# Altium integrated library Silicon Labs Automotive & Industrial MCUs.IntLib: 240 symbols (part 4 of 8)
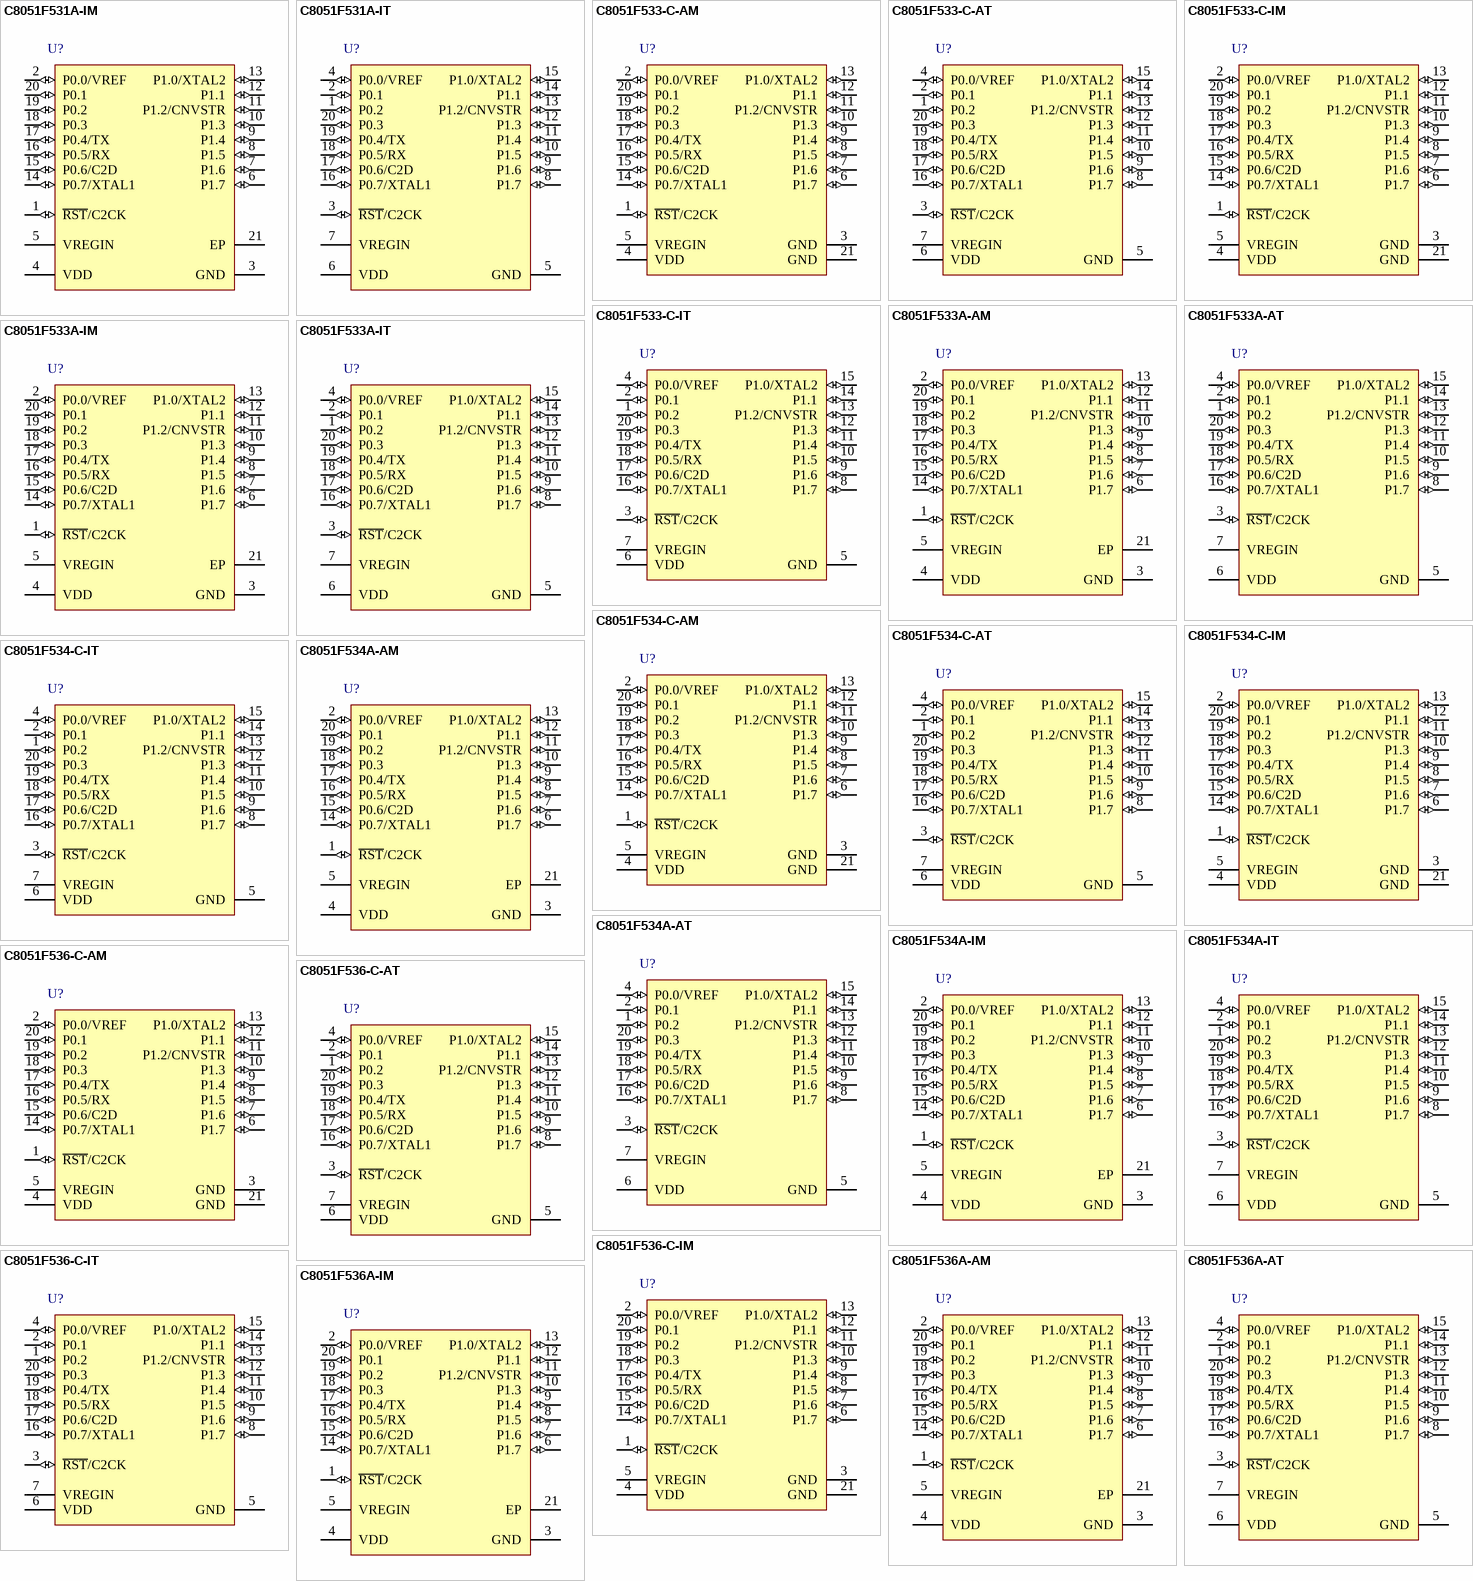
[diagram p16: symbols C8051F531A-IM to C8051F536A-IM]

## C8051F536-C-AT
designator U?
ISP Flash MCU Family, 25 MHz, 0.25 kB RAM, 2 kB Flash, -40 to 125 degC, 20-pin SOP; Manufacturer: Silicon Labs; PartNumber: C8051F536-C-AT; Note: 0; ADC 1: 12-bit, 16-ch., 200 ksps; AEC-Q100: TRUE; Comparators: 1; Debug Interface: C2; Dig I/O Pins: 16; Flash: 2 kB; Internal Osc. Accuracy: +/-0.5%; MCU Core: 8051; MHz: 25; PCA Channels: 3; RAM: 0.25 kB; Sub-Family: Automotive & Industrial MCUs; DatasheetVersion: Rev. 1.4; PackageReference: TSSOP-20; PackageDescription: 20-Pin Thin Shrink Small-Outline Package, Body 6.5 x 4.4 mm, Pitch 0.65 mm; Temp Sensor: TRUE; Timers (16-bit): 3; Mounting Technology: Surface Mount; Code_JEDEC: MO-153; Code_IPC: J-STD-020; ComponentLink1Description: Manufacturer URL; ComponentLink1URL: http://www.silabs.com; ComponentLink2Description: Datasheet; ComponentLink2URL: http://www.silabs.com/Support Documents/TechnicalDocs/C8051F52x-F53x.pdf; ComponentLink3Description: Package Specification; ComponentLink3URL: http://www.silabs.com/Support Documents/TechnicalDocs/C8051F52x-F53x.pdf
footprint SLAB-TSSOP-20_N (SOP, 20-Leads, Body 6.6x4.5mm, Pitch 0.65mm, , IPC Medium Density)
footprint SLAB-TSSOP-20_L (SOP, 20-Leads, Body 6.6x4.5mm, Pitch 0.65mm, IPC High Density)
footprint SLAB-TSSOP-20_M (SOP, 20-Leads, Body 6.6x4.5mm, Pitch 0.65mm, IPC Low Density)
pins: 1 P0.2 (io) "Port 0.2. See Port I/O Section for a complete description.", 2 P0.1 (io) "Port 0.1. See Port I/O Section for a complete description.", 3 ~{RST}/C2CK (io), 4 P0.0/VREF (io), 5 GND (power) "Ground.", 6 VDD (power) "Core Supply Voltage.", 7 VREGIN (power) "On-Chip Voltage Regulator Input.", 8 P1.7 (io) "Port 1.7. See Port I/O Section for a complete description.", 9 P1.6 (io) "Port 1.6. See Port I/O Section for a complete description.", 10 P1.5 (io) "Port 1.5. See Port I/O Section for a complete description.", 11 P1.4 (io) "Port 1.4. See Port I/O Section for a complete description.", 12 P1.3 (io) "Port 1.3. See Port I/O Section for a complete description.", 13 P1.2/CNVSTR (io), 14 P1.1 (io) "Port 1.1. See Port I/O Section for a complete description.", 15 P1.0/XTAL2 (io), 16 P0.7/XTAL1 (io), 17 P0.6/C2D (io), 18 P0.5/RX (io), 19 P0.4/TX (io), 20 P0.3 (io) "Port 0.3. See Port I/O Section for a complete description."

## C8051F536-C-IM
designator U?
ISP Flash MCU Family, 25 MHz, 0.25 kB RAM, 2 kB Flash, -40 to 125 degC, 20-pin QFN; Manufacturer: Silicon Labs; PartNumber: C8051F536-C-IM; ADC 1: 12-bit, 16-ch., 200 ksps; AEC-Q100: FALSE; Comparators: 1; Debug Interface: C2; Dig I/O Pins: 16; Flash: 2 kB; Internal Osc. Accuracy: +/-0.5%; MCU Core: 8051; MHz: 25; PCA Channels: 3; RAM: 0.25 kB; Temp Sensor: TRUE; Sub-Family: Automotive & Industrial MCUs; DatasheetVersion: Rev. 1.4; PackageReference: QFN-20; PackageDescription: 20-Pin Quad-Flat No-Leads Package, Body 4 x 4 mm, Pitch 0.5 mm; Supplier 1: Digi-Key; Supplier Part Number 1: C8051F536-C-IM-ND; Supplier 2: Mouser; Supplier Part Number 2: 634-C8051F536-C-IM; Timers (16-bit): 3; Mounting Technology: Surface Mount; Code_JEDEC: MO-220; Code_IPC: J-STD-020; ComponentLink1Description: Manufacturer URL; ComponentLink1URL: http://www.silabs.com; ComponentLink2Description: Datasheet; ComponentLink2URL: http://www.silabs.com/Support Documents/TechnicalDocs/C8051F52x-F53x.pdf; ComponentLink3Description: Package Specification; ComponentLink3URL: http://www.silabs.com/Support%20Documents/TechnicalDocs/C8051F52x-F53x.pdf
footprint SLAB-QFN-20-2700x2700TP_N (QFN, 20-Leads, Body 4x4mm, Pitch 0.5mm, Thermal Pad 2.7x2.7mm, IPC Medium Density)
footprint SLAB-QFN-20-2700x2700TP_L (QFN, 20-Leads, Body 4x4mm, Pitch 0.5mm, Thermal Pad 2.7x2.7mm, IPC High Density)
footprint SLAB-QFN-20-2700x2700TP_M (QFN, 20-Leads, Body 4x4mm, Pitch 0.5mm, Thermal Pad 2.7x2.7mm, IPC Low Density)
pins: 1 ~{RST}/C2CK (io), 2 P0.0/VREF (io), 3 GND (power) "Ground.", 4 VDD (power) "Core Supply Voltage.", 5 VREGIN (power) "On-Chip Voltage Regulator Input.", 6 P1.7 (io) "Port 1.7. See Port I/O Section for a complete description.", 7 P1.6 (io) "Port 1.6. See Port I/O Section for a complete description.", 8 P1.5 (io) "Port 1.5. See Port I/O Section for a complete description.", 9 P1.4 (io) "Port 1.4. See Port I/O Section for a complete description.", 10 P1.3 (io) "Port 1.3. See Port I/O Section for a complete description.", 11 P1.2/CNVSTR (io), 12 P1.1 (io) "Port 1.1. See Port I/O Section for a complete description.", 13 P1.0/XTAL2 (io), 14 P0.7/XTAL1 (io), 15 P0.6/C2D (io), 16 P0.5/RX (io), 17 P0.4/TX (io), 18 P0.3 (io) "Port 0.3. See Port I/O Section for a complete description.", 19 P0.2 (io) "Port 0.2. See Port I/O Section for a complete description.", 20 P0.1 (io) "Port 0.1. See Port I/O Section for a complete description.", 21 GND (power)

## C8051F536-C-IT
designator U?
ISP Flash MCU Family, 25 MHz, 0.25 kB RAM, 2 kB Flash, -40 to 125 degC, 20-pin SOP; Manufacturer: Silicon Labs; PartNumber: C8051F536-C-IT; ADC 1: 12-bit, 16-ch., 200 ksps; AEC-Q100: FALSE; Comparators: 1; Debug Interface: C2; Dig I/O Pins: 16; Flash: 2 kB; Internal Osc. Accuracy: +/-0.5%; MCU Core: 8051; MHz: 25; PCA Channels: 3; RAM: 0.25 kB; Temp Sensor: TRUE; Sub-Family: Automotive & Industrial MCUs; DatasheetVersion: Rev. 1.4; PackageReference: TSSOP-20; PackageDescription: 20-Pin Thin Shrink Small-Outline Package, Body 6.5 x 4.4 mm, Pitch 0.65 mm; Supplier 1: Digi-Key; Supplier Part Number 1: C8051F536-C-IT-ND; Supplier 2: Mouser; Supplier Part Number 2: 634-C8051F536-C-IT; Timers (16-bit): 3; Mounting Technology: Surface Mount; Code_JEDEC: MO-153; Code_IPC: J-STD-020; ComponentLink1Description: Manufacturer URL; ComponentLink1URL: http://www.silabs.com; ComponentLink2Description: Datasheet; ComponentLink2URL: http://www.silabs.com/Support Documents/TechnicalDocs/C8051F52x-F53x.pdf; ComponentLink3Description: Package Specification; ComponentLink3URL: http://www.silabs.com/Support Documents/TechnicalDocs/C8051F52x-F53x.pdf
footprint SLAB-TSSOP-20_N (SOP, 20-Leads, Body 6.6x4.5mm, Pitch 0.65mm, , IPC Medium Density)
footprint SLAB-TSSOP-20_L (SOP, 20-Leads, Body 6.6x4.5mm, Pitch 0.65mm, IPC High Density)
footprint SLAB-TSSOP-20_M (SOP, 20-Leads, Body 6.6x4.5mm, Pitch 0.65mm, IPC Low Density)
pins: 1 P0.2 (io) "Port 0.2. See Port I/O Section for a complete description.", 2 P0.1 (io) "Port 0.1. See Port I/O Section for a complete description.", 3 ~{RST}/C2CK (io), 4 P0.0/VREF (io), 5 GND (power) "Ground.", 6 VDD (power) "Core Supply Voltage.", 7 VREGIN (power) "On-Chip Voltage Regulator Input.", 8 P1.7 (io) "Port 1.7. See Port I/O Section for a complete description.", 9 P1.6 (io) "Port 1.6. See Port I/O Section for a complete description.", 10 P1.5 (io) "Port 1.5. See Port I/O Section for a complete description.", 11 P1.4 (io) "Port 1.4. See Port I/O Section for a complete description.", 12 P1.3 (io) "Port 1.3. See Port I/O Section for a complete description.", 13 P1.2/CNVSTR (io), 14 P1.1 (io) "Port 1.1. See Port I/O Section for a complete description.", 15 P1.0/XTAL2 (io), 16 P0.7/XTAL1 (io), 17 P0.6/C2D (io), 18 P0.5/RX (io), 19 P0.4/TX (io), 20 P0.3 (io) "Port 0.3. See Port I/O Section for a complete description."

## C8051F536A-AM
designator U?
Mixed Signal 2KB Flash ISP MCU, 256B RAM, 16 I/Os, 12-Bit 16 Channel ADC, LIN 2.1, SPI, 20-Pin QFN, Automotive Grade; Manufacturer: Silicon Labs; PartNumber: C8051F536A-AM; DatasheetVersion: rev1.3, Apr-2011; PackageVersion: 2011; PackageReference: QFN-20; PackageDescription: 20-Pin Quad Flat No-Lead, 4 x 4 x 0.9 mm Body, 0.5 mm Pitch; Code_JEDEC: MO-220-VGGD; ComponentLink1Description: Manufacturer URL; ComponentLink1URL: http://www.silabs.com; ComponentLink2Description: Datasheet; ComponentLink2URL: http://www.silabs.com/Support%20Documents/TechnicalDocs/C8051F52x-F53x.pdf
footprint QFN-20_V (QFN, 20-Leads, Body 4x4mm, Pitch 0.5mm, Thermal Pad 2.8x2.8mm, Silicon Labs Recommended)
pins: 1 ~{RST}/C2CK (io), 2 P0.0/VREF (io), 3 GND (power), 4 VDD (power), 5 VREGIN (power), 6 P1.7 (io), 7 P1.6 (io), 8 P1.5 (io), 9 P1.4 (io), 10 P1.3 (io), 11 P1.2/CNVSTR (io), 12 P1.1 (io), 13 P1.0/XTAL2 (io), 14 P0.7/XTAL1 (io), 15 P0.6/C2D (io), 16 P0.5/RX (io), 17 P0.4/TX (io), 18 P0.3 (io), 19 P0.2 (io), 20 P0.1 (io), 21 EP (power)

## C8051F536A-AT
designator U?
Mixed Signal 2KB Flash ISP MCU, 256B RAM, 16 I/Os, 12-Bit 16 Channel ADC, LIN 2.1, SPI, 20-Pin TSSOP, Automotive Grade; Manufacturer: Silicon Labs; PartNumber: C8051F536A-AT; DatasheetVersion: rev1.3, Apr-2011; PackageVersion: 2011; PackageReference: TSSOP-20; PackageDescription: 20-Pin Thin Small Outline Package 6.5 x 4.4 mm Body, 0.65 mm Pitch; Code_JEDEC: MO-153-AC; ComponentLink1Description: Manufacturer URL; ComponentLink1URL: http://www.silabs.com; ComponentLink2Description: Datasheet; ComponentLink2URL: http://www.silabs.com/Support%20Documents/TechnicalDocs/C8051F52x-F53x.pdf
footprint TSSOP-20_N (TSOP, 20-Leads, Body 6.5x4.4mm, Pitch 0.65mm, IPC Medium Density)
footprint TSSOP-20_L (TSOP, 20-Leads, Body 6.5x4.4mm, Pitch 0.65mm, IPC High Density)
footprint TSSOP-20_M (TSOP, 20-Leads, Body 6.5x4.4mm, Pitch 0.65mm, IPC Low Density)
pins: 1 P0.2 (io), 2 P0.1 (io), 3 ~{RST}/C2CK (io), 4 P0.0/VREF (io), 5 GND (power), 6 VDD (power), 7 VREGIN (power), 8 P1.7 (io), 9 P1.6 (io), 10 P1.5 (io), 11 P1.4 (io), 12 P1.3 (io), 13 P1.2/CNVSTR (io), 14 P1.1 (io), 15 P1.0/XTAL2 (io), 16 P0.7/XTAL1 (io), 17 P0.6/C2D (io), 18 P0.5/RX (io), 19 P0.4/TX (io), 20 P0.3 (io)

## C8051F536A-IM
designator U?
Mixed Signal 2KB Flash ISP MCU, 256B RAM, 16 I/Os, 12-Bit 16 Channel ADC, LIN 2.1, SPI, 20-Pin QFN, Industrial Grade; Manufacturer: Silicon Labs; PartNumber: C8051F536A-IM; DatasheetVersion: rev1.3, Apr-2011; PackageVersion: 2011; PackageReference: QFN-20; PackageDescription: 20-Pin Quad Flat No-Lead, 4 x 4 x 0.9 mm Body, 0.5 mm Pitch; Supplier 1: Digi-Key; Supplier Part Number 1: 336-1501-5-ND; Supplier 2: Mouser; Supplier Part Number 2: 634-C8051F536A-IM; Code_JEDEC: MO-220-VGGD; ComponentLink1Description: Manufacturer URL; ComponentLink1URL: http://www.silabs.com; ComponentLink2Description: Datasheet; ComponentLink2URL: http://www.silabs.com/Support%20Documents/TechnicalDocs/C8051F52x-F53x.pdf
footprint QFN-20_V (QFN, 20-Leads, Body 4x4mm, Pitch 0.5mm, Thermal Pad 2.8x2.8mm, Silicon Labs Recommended)
pins: 1 ~{RST}/C2CK (io), 2 P0.0/VREF (io), 3 GND (power), 4 VDD (power), 5 VREGIN (power), 6 P1.7 (io), 7 P1.6 (io), 8 P1.5 (io), 9 P1.4 (io), 10 P1.3 (io), 11 P1.2/CNVSTR (io), 12 P1.1 (io), 13 P1.0/XTAL2 (io), 14 P0.7/XTAL1 (io), 15 P0.6/C2D (io), 16 P0.5/RX (io), 17 P0.4/TX (io), 18 P0.3 (io), 19 P0.2 (io), 20 P0.1 (io), 21 EP (power)

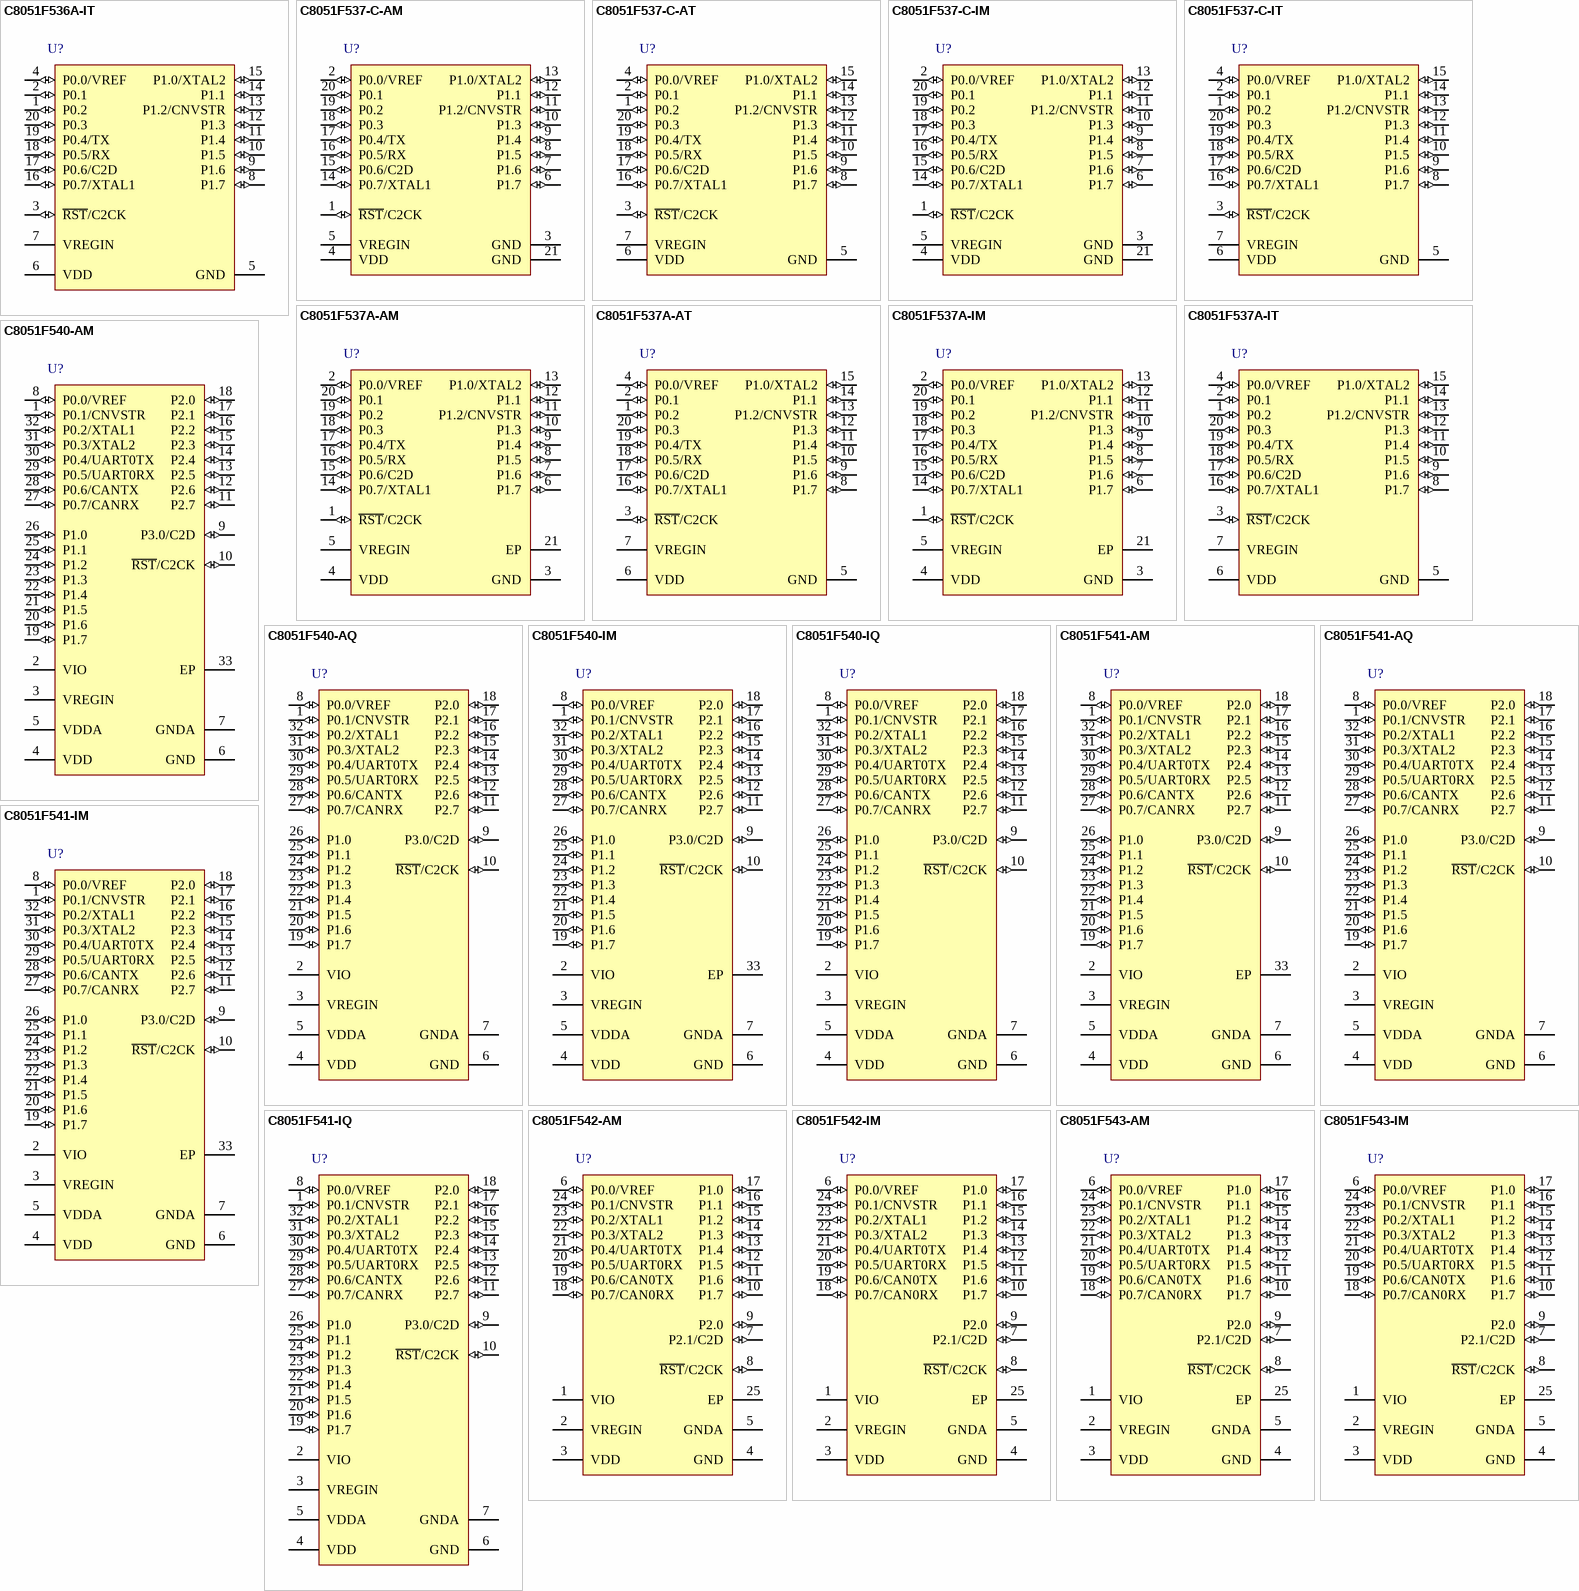
[diagram p5: symbols C8051F536A-IT to C8051F543-IM]

## C8051F536A-IT
designator U?
Mixed Signal 2KB Flash ISP MCU, 256B RAM, 16 I/Os, 12-Bit 16 Channel ADC, LIN 2.1, SPI, 20-Pin TSSOP, Industrial Grade; Manufacturer: Silicon Labs; PartNumber: C8051F536A-IT; DatasheetVersion: rev1.3, Apr-2011; PackageVersion: 2011; PackageReference: TSSOP-20; PackageDescription: 20-Pin Thin Small Outline Package 6.5 x 4.4 mm Body, 0.65 mm Pitch; Supplier 1: Digi-Key; Supplier Part Number 1: 336-1502-5-ND; Supplier 2: Mouser; Supplier Part Number 2: 634-C8051F536A-IT; Code_JEDEC: MO-153-AC; ComponentLink1Description: Manufacturer URL; ComponentLink1URL: http://www.silabs.com; ComponentLink2Description: Datasheet; ComponentLink2URL: http://www.silabs.com/Support%20Documents/TechnicalDocs/C8051F52x-F53x.pdf
footprint TSSOP-20_N (TSOP, 20-Leads, Body 6.5x4.4mm, Pitch 0.65mm, IPC Medium Density)
footprint TSSOP-20_L (TSOP, 20-Leads, Body 6.5x4.4mm, Pitch 0.65mm, IPC High Density)
footprint TSSOP-20_M (TSOP, 20-Leads, Body 6.5x4.4mm, Pitch 0.65mm, IPC Low Density)
pins: 1 P0.2 (io), 2 P0.1 (io), 3 ~{RST}/C2CK (io), 4 P0.0/VREF (io), 5 GND (power), 6 VDD (power), 7 VREGIN (power), 8 P1.7 (io), 9 P1.6 (io), 10 P1.5 (io), 11 P1.4 (io), 12 P1.3 (io), 13 P1.2/CNVSTR (io), 14 P1.1 (io), 15 P1.0/XTAL2 (io), 16 P0.7/XTAL1 (io), 17 P0.6/C2D (io), 18 P0.5/RX (io), 19 P0.4/TX (io), 20 P0.3 (io)

## C8051F537-C-AM
designator U?
ISP Flash MCU Family, 25 MHz, 0.25 kB RAM, 2 kB Flash, -40 to 125 degC, 20-pin QFN; Manufacturer: Silicon Labs; PartNumber: C8051F537-C-AM; Note: 0; ADC 1: 12-bit, 16-ch., 200 ksps; AEC-Q100: TRUE; Comparators: 1; Debug Interface: C2; Dig I/O Pins: 16; Flash: 2 kB; Internal Osc. Accuracy: +/-0.5%; MCU Core: 8051; MHz: 25; PCA Channels: 3; RAM: 0.25 kB; Sub-Family: Automotive & Industrial MCUs; DatasheetVersion: Rev. 1.4; PackageReference: QFN-20; PackageDescription: 20-Pin Quad-Flat No-Leads Package, Body 4 x 4 mm, Pitch 0.5 mm; Temp Sensor: TRUE; Timers (16-bit): 3; Mounting Technology: Surface Mount; Code_JEDEC: MO-220; Code_IPC: J-STD-020; ComponentLink1Description: Manufacturer URL; ComponentLink1URL: http://www.silabs.com; ComponentLink2Description: Datasheet; ComponentLink2URL: http://www.silabs.com/Support Documents/TechnicalDocs/C8051F52x-F53x.pdf; ComponentLink3Description: Package Specification; ComponentLink3URL: http://www.silabs.com/Support%20Documents/TechnicalDocs/C8051F52x-F53x.pdf
footprint SLAB-QFN-20-2700x2700TP_N (QFN, 20-Leads, Body 4x4mm, Pitch 0.5mm, Thermal Pad 2.7x2.7mm, IPC Medium Density)
footprint SLAB-QFN-20-2700x2700TP_L (QFN, 20-Leads, Body 4x4mm, Pitch 0.5mm, Thermal Pad 2.7x2.7mm, IPC High Density)
footprint SLAB-QFN-20-2700x2700TP_M (QFN, 20-Leads, Body 4x4mm, Pitch 0.5mm, Thermal Pad 2.7x2.7mm, IPC Low Density)
pins: 1 ~{RST}/C2CK (io), 2 P0.0/VREF (io), 3 GND (power) "Ground.", 4 VDD (power) "Core Supply Voltage.", 5 VREGIN (power) "On-Chip Voltage Regulator Input.", 6 P1.7 (io) "Port 1.7. See Port I/O Section for a complete description.", 7 P1.6 (io) "Port 1.6. See Port I/O Section for a complete description.", 8 P1.5 (io) "Port 1.5. See Port I/O Section for a complete description.", 9 P1.4 (io) "Port 1.4. See Port I/O Section for a complete description.", 10 P1.3 (io) "Port 1.3. See Port I/O Section for a complete description.", 11 P1.2/CNVSTR (io), 12 P1.1 (io) "Port 1.1. See Port I/O Section for a complete description.", 13 P1.0/XTAL2 (io), 14 P0.7/XTAL1 (io), 15 P0.6/C2D (io), 16 P0.5/RX (io), 17 P0.4/TX (io), 18 P0.3 (io) "Port 0.3. See Port I/O Section for a complete description.", 19 P0.2 (io) "Port 0.2. See Port I/O Section for a complete description.", 20 P0.1 (io) "Port 0.1. See Port I/O Section for a complete description.", 21 GND (power)

## C8051F537-C-AT
designator U?
ISP Flash MCU Family, 25 MHz, 0.25 kB RAM, 2 kB Flash, -40 to 125 degC, 20-pin SOP; Manufacturer: Silicon Labs; PartNumber: C8051F537-C-AT; Note: 0; ADC 1: 12-bit, 16-ch., 200 ksps; AEC-Q100: TRUE; Comparators: 1; Debug Interface: C2; Dig I/O Pins: 16; Flash: 2 kB; Internal Osc. Accuracy: +/-0.5%; MCU Core: 8051; MHz: 25; PCA Channels: 3; RAM: 0.25 kB; Sub-Family: Automotive & Industrial MCUs; DatasheetVersion: Rev. 1.4; PackageReference: TSSOP-20; PackageDescription: 20-Pin Thin Shrink Small-Outline Package, Body 6.5 x 4.4 mm, Pitch 0.65 mm; Temp Sensor: TRUE; Timers (16-bit): 3; Mounting Technology: Surface Mount; Code_JEDEC: MO-153; Code_IPC: J-STD-020; ComponentLink1Description: Manufacturer URL; ComponentLink1URL: http://www.silabs.com; ComponentLink2Description: Datasheet; ComponentLink2URL: http://www.silabs.com/Support Documents/TechnicalDocs/C8051F52x-F53x.pdf; ComponentLink3Description: Package Specification; ComponentLink3URL: http://www.silabs.com/Support Documents/TechnicalDocs/C8051F52x-F53x.pdf
footprint SLAB-TSSOP-20_N (SOP, 20-Leads, Body 6.6x4.5mm, Pitch 0.65mm, , IPC Medium Density)
footprint SLAB-TSSOP-20_L (SOP, 20-Leads, Body 6.6x4.5mm, Pitch 0.65mm, IPC High Density)
footprint SLAB-TSSOP-20_M (SOP, 20-Leads, Body 6.6x4.5mm, Pitch 0.65mm, IPC Low Density)
pins: 1 P0.2 (io) "Port 0.2. See Port I/O Section for a complete description.", 2 P0.1 (io) "Port 0.1. See Port I/O Section for a complete description.", 3 ~{RST}/C2CK (io), 4 P0.0/VREF (io), 5 GND (power) "Ground.", 6 VDD (power) "Core Supply Voltage.", 7 VREGIN (power) "On-Chip Voltage Regulator Input.", 8 P1.7 (io) "Port 1.7. See Port I/O Section for a complete description.", 9 P1.6 (io) "Port 1.6. See Port I/O Section for a complete description.", 10 P1.5 (io) "Port 1.5. See Port I/O Section for a complete description.", 11 P1.4 (io) "Port 1.4. See Port I/O Section for a complete description.", 12 P1.3 (io) "Port 1.3. See Port I/O Section for a complete description.", 13 P1.2/CNVSTR (io), 14 P1.1 (io) "Port 1.1. See Port I/O Section for a complete description.", 15 P1.0/XTAL2 (io), 16 P0.7/XTAL1 (io), 17 P0.6/C2D (io), 18 P0.5/RX (io), 19 P0.4/TX (io), 20 P0.3 (io) "Port 0.3. See Port I/O Section for a complete description."

## C8051F537-C-IM
designator U?
ISP Flash MCU Family, 25 MHz, 0.25 kB RAM, 2 kB Flash, -40 to 125 degC, 20-pin QFN; Manufacturer: Silicon Labs; PartNumber: C8051F537-C-IM; ADC 1: 12-bit, 16-ch., 200 ksps; AEC-Q100: FALSE; Comparators: 1; Debug Interface: C2; Dig I/O Pins: 16; Flash: 2 kB; Internal Osc. Accuracy: +/-0.5%; MCU Core: 8051; MHz: 25; PCA Channels: 3; RAM: 0.25 kB; Temp Sensor: TRUE; Sub-Family: Automotive & Industrial MCUs; DatasheetVersion: Rev. 1.4; PackageReference: QFN-20; PackageDescription: 20-Pin Quad-Flat No-Leads Package, Body 4 x 4 mm, Pitch 0.5 mm; Supplier 1: Digi-Key; Supplier Part Number 1: C8051F537-C-IM-ND; Supplier 2: Mouser; Supplier Part Number 2: 634-C8051F537-C-IM; Timers (16-bit): 3; Mounting Technology: Surface Mount; Code_JEDEC: MO-220; Code_IPC: J-STD-020; ComponentLink1Description: Manufacturer URL; ComponentLink1URL: http://www.silabs.com; ComponentLink2Description: Datasheet; ComponentLink2URL: http://www.silabs.com/Support Documents/TechnicalDocs/C8051F52x-F53x.pdf; ComponentLink3Description: Package Specification; ComponentLink3URL: http://www.silabs.com/Support%20Documents/TechnicalDocs/C8051F52x-F53x.pdf
footprint SLAB-QFN-20-2700x2700TP_N (QFN, 20-Leads, Body 4x4mm, Pitch 0.5mm, Thermal Pad 2.7x2.7mm, IPC Medium Density)
footprint SLAB-QFN-20-2700x2700TP_L (QFN, 20-Leads, Body 4x4mm, Pitch 0.5mm, Thermal Pad 2.7x2.7mm, IPC High Density)
footprint SLAB-QFN-20-2700x2700TP_M (QFN, 20-Leads, Body 4x4mm, Pitch 0.5mm, Thermal Pad 2.7x2.7mm, IPC Low Density)
pins: 1 ~{RST}/C2CK (io), 2 P0.0/VREF (io), 3 GND (power) "Ground.", 4 VDD (power) "Core Supply Voltage.", 5 VREGIN (power) "On-Chip Voltage Regulator Input.", 6 P1.7 (io) "Port 1.7. See Port I/O Section for a complete description.", 7 P1.6 (io) "Port 1.6. See Port I/O Section for a complete description.", 8 P1.5 (io) "Port 1.5. See Port I/O Section for a complete description.", 9 P1.4 (io) "Port 1.4. See Port I/O Section for a complete description.", 10 P1.3 (io) "Port 1.3. See Port I/O Section for a complete description.", 11 P1.2/CNVSTR (io), 12 P1.1 (io) "Port 1.1. See Port I/O Section for a complete description.", 13 P1.0/XTAL2 (io), 14 P0.7/XTAL1 (io), 15 P0.6/C2D (io), 16 P0.5/RX (io), 17 P0.4/TX (io), 18 P0.3 (io) "Port 0.3. See Port I/O Section for a complete description.", 19 P0.2 (io) "Port 0.2. See Port I/O Section for a complete description.", 20 P0.1 (io) "Port 0.1. See Port I/O Section for a complete description.", 21 GND (power)

## C8051F537-C-IT
designator U?
ISP Flash MCU Family, 25 MHz, 0.25 kB RAM, 2 kB Flash, -40 to 125 degC, 20-pin SOP; Manufacturer: Silicon Labs; PartNumber: C8051F537-C-IT; ADC 1: 12-bit, 16-ch., 200 ksps; AEC-Q100: FALSE; Comparators: 1; Debug Interface: C2; Dig I/O Pins: 16; Flash: 2 kB; Internal Osc. Accuracy: +/-0.5%; MCU Core: 8051; MHz: 25; PCA Channels: 3; RAM: 0.25 kB; Temp Sensor: TRUE; Sub-Family: Automotive & Industrial MCUs; DatasheetVersion: Rev. 1.4; PackageReference: TSSOP-20; PackageDescription: 20-Pin Thin Shrink Small-Outline Package, Body 6.5 x 4.4 mm, Pitch 0.65 mm; Supplier 1: Digi-Key; Supplier Part Number 1: C8051F537-C-IT-ND; Supplier 2: Mouser; Supplier Part Number 2: 634-C8051F537-C-IT; Timers (16-bit): 3; Mounting Technology: Surface Mount; Code_JEDEC: MO-153; Code_IPC: J-STD-020; ComponentLink1Description: Manufacturer URL; ComponentLink1URL: http://www.silabs.com; ComponentLink2Description: Datasheet; ComponentLink2URL: http://www.silabs.com/Support Documents/TechnicalDocs/C8051F52x-F53x.pdf; ComponentLink3Description: Package Specification; ComponentLink3URL: http://www.silabs.com/Support Documents/TechnicalDocs/C8051F52x-F53x.pdf
footprint SLAB-TSSOP-20_N (SOP, 20-Leads, Body 6.6x4.5mm, Pitch 0.65mm, , IPC Medium Density)
footprint SLAB-TSSOP-20_L (SOP, 20-Leads, Body 6.6x4.5mm, Pitch 0.65mm, IPC High Density)
footprint SLAB-TSSOP-20_M (SOP, 20-Leads, Body 6.6x4.5mm, Pitch 0.65mm, IPC Low Density)
pins: 1 P0.2 (io) "Port 0.2. See Port I/O Section for a complete description.", 2 P0.1 (io) "Port 0.1. See Port I/O Section for a complete description.", 3 ~{RST}/C2CK (io), 4 P0.0/VREF (io), 5 GND (power) "Ground.", 6 VDD (power) "Core Supply Voltage.", 7 VREGIN (power) "On-Chip Voltage Regulator Input.", 8 P1.7 (io) "Port 1.7. See Port I/O Section for a complete description.", 9 P1.6 (io) "Port 1.6. See Port I/O Section for a complete description.", 10 P1.5 (io) "Port 1.5. See Port I/O Section for a complete description.", 11 P1.4 (io) "Port 1.4. See Port I/O Section for a complete description.", 12 P1.3 (io) "Port 1.3. See Port I/O Section for a complete description.", 13 P1.2/CNVSTR (io), 14 P1.1 (io) "Port 1.1. See Port I/O Section for a complete description.", 15 P1.0/XTAL2 (io), 16 P0.7/XTAL1 (io), 17 P0.6/C2D (io), 18 P0.5/RX (io), 19 P0.4/TX (io), 20 P0.3 (io) "Port 0.3. See Port I/O Section for a complete description."

## C8051F537A-AM
designator U?
Mixed Signal 2KB Flash ISP MCU, 256B RAM, 16 I/Os, 12-Bit 16 Channel ADC, SPI, 20-Pin QFN, Automotive Grade; Manufacturer: Silicon Labs; PartNumber: C8051F537A-AM; DatasheetVersion: rev1.3, Apr-2011; PackageVersion: 2011; PackageReference: QFN-20; PackageDescription: 20-Pin Quad Flat No-Lead, 4 x 4 x 0.9 mm Body, 0.5 mm Pitch; Code_JEDEC: MO-220-VGGD; ComponentLink1Description: Manufacturer URL; ComponentLink1URL: http://www.silabs.com; ComponentLink2Description: Datasheet; ComponentLink2URL: http://www.silabs.com/Support%20Documents/TechnicalDocs/C8051F52x-F53x.pdf
footprint QFN-20_V (QFN, 20-Leads, Body 4x4mm, Pitch 0.5mm, Thermal Pad 2.8x2.8mm, Silicon Labs Recommended)
pins: 1 ~{RST}/C2CK (io), 2 P0.0/VREF (io), 3 GND (power), 4 VDD (power), 5 VREGIN (power), 6 P1.7 (io), 7 P1.6 (io), 8 P1.5 (io), 9 P1.4 (io), 10 P1.3 (io), 11 P1.2/CNVSTR (io), 12 P1.1 (io), 13 P1.0/XTAL2 (io), 14 P0.7/XTAL1 (io), 15 P0.6/C2D (io), 16 P0.5/RX (io), 17 P0.4/TX (io), 18 P0.3 (io), 19 P0.2 (io), 20 P0.1 (io), 21 EP (power)

## C8051F537A-AT
designator U?
Mixed Signal 2KB Flash ISP MCU, 256B RAM, 16 I/Os, 12-Bit 16 Channel ADC, SPI, 20-Pin TSSOP, Automotive Grade; Manufacturer: Silicon Labs; PartNumber: C8051F537A-AT; DatasheetVersion: rev1.3, Apr-2011; PackageVersion: 2011; PackageReference: TSSOP-20; PackageDescription: 20-Pin Thin Small Outline Package 6.5 x 4.4 mm Body, 0.65 mm Pitch; Code_JEDEC: MO-153-AC; ComponentLink1Description: Manufacturer URL; ComponentLink1URL: http://www.silabs.com; ComponentLink2Description: Datasheet; ComponentLink2URL: http://www.silabs.com/Support%20Documents/TechnicalDocs/C8051F52x-F53x.pdf
footprint TSSOP-20_N (TSOP, 20-Leads, Body 6.5x4.4mm, Pitch 0.65mm, IPC Medium Density)
footprint TSSOP-20_L (TSOP, 20-Leads, Body 6.5x4.4mm, Pitch 0.65mm, IPC High Density)
footprint TSSOP-20_M (TSOP, 20-Leads, Body 6.5x4.4mm, Pitch 0.65mm, IPC Low Density)
pins: 1 P0.2 (io), 2 P0.1 (io), 3 ~{RST}/C2CK (io), 4 P0.0/VREF (io), 5 GND (power), 6 VDD (power), 7 VREGIN (power), 8 P1.7 (io), 9 P1.6 (io), 10 P1.5 (io), 11 P1.4 (io), 12 P1.3 (io), 13 P1.2/CNVSTR (io), 14 P1.1 (io), 15 P1.0/XTAL2 (io), 16 P0.7/XTAL1 (io), 17 P0.6/C2D (io), 18 P0.5/RX (io), 19 P0.4/TX (io), 20 P0.3 (io)

## C8051F537A-IM
designator U?
Mixed Signal 2KB Flash ISP MCU, 256B RAM, 16 I/Os, 12-Bit 16 Channel ADC, SPI, 20-Pin QFN, Industrial Grade; Manufacturer: Silicon Labs; PartNumber: C8051F537A-IM; DatasheetVersion: rev1.3, Apr-2011; PackageVersion: 2011; PackageReference: QFN-20; PackageDescription: 20-Pin Quad Flat No-Lead, 4 x 4 x 0.9 mm Body, 0.5 mm Pitch; Supplier 1: Digi-Key; Supplier Part Number 1: 336-1503-5-ND; Supplier 2: Mouser; Supplier Part Number 2: 634-C8051F537A-IM; Code_JEDEC: MO-220-VGGD; ComponentLink1Description: Manufacturer URL; ComponentLink1URL: http://www.silabs.com; ComponentLink2Description: Datasheet; ComponentLink2URL: http://www.silabs.com/Support%20Documents/TechnicalDocs/C8051F52x-F53x.pdf
footprint QFN-20_V (QFN, 20-Leads, Body 4x4mm, Pitch 0.5mm, Thermal Pad 2.8x2.8mm, Silicon Labs Recommended)
pins: 1 ~{RST}/C2CK (io), 2 P0.0/VREF (io), 3 GND (power), 4 VDD (power), 5 VREGIN (power), 6 P1.7 (io), 7 P1.6 (io), 8 P1.5 (io), 9 P1.4 (io), 10 P1.3 (io), 11 P1.2/CNVSTR (io), 12 P1.1 (io), 13 P1.0/XTAL2 (io), 14 P0.7/XTAL1 (io), 15 P0.6/C2D (io), 16 P0.5/RX (io), 17 P0.4/TX (io), 18 P0.3 (io), 19 P0.2 (io), 20 P0.1 (io), 21 EP (power)

## C8051F537A-IT
designator U?
Mixed Signal 2KB Flash ISP MCU, 256B RAM, 16 I/Os, 12-Bit 16 Channel ADC, SPI, 20-Pin TSSOP, Industrial Grade; Manufacturer: Silicon Labs; PartNumber: C8051F537A-IT; DatasheetVersion: rev1.3, Apr-2011; PackageVersion: 2011; PackageReference: TSSOP-20; PackageDescription: 20-Pin Thin Small Outline Package 6.5 x 4.4 mm Body, 0.65 mm Pitch; Supplier 1: Digi-Key; Supplier Part Number 1: 336-1504-5-ND; Supplier 2: Mouser; Supplier Part Number 2: 634-C8051F537A-IT; Code_JEDEC: MO-153-AC; ComponentLink1Description: Manufacturer URL; ComponentLink1URL: http://www.silabs.com; ComponentLink2Description: Datasheet; ComponentLink2URL: http://www.silabs.com/Support%20Documents/TechnicalDocs/C8051F52x-F53x.pdf
footprint TSSOP-20_N (TSOP, 20-Leads, Body 6.5x4.4mm, Pitch 0.65mm, IPC Medium Density)
footprint TSSOP-20_L (TSOP, 20-Leads, Body 6.5x4.4mm, Pitch 0.65mm, IPC High Density)
footprint TSSOP-20_M (TSOP, 20-Leads, Body 6.5x4.4mm, Pitch 0.65mm, IPC Low Density)
pins: 1 P0.2 (io), 2 P0.1 (io), 3 ~{RST}/C2CK (io), 4 P0.0/VREF (io), 5 GND (power), 6 VDD (power), 7 VREGIN (power), 8 P1.7 (io), 9 P1.6 (io), 10 P1.5 (io), 11 P1.4 (io), 12 P1.3 (io), 13 P1.2/CNVSTR (io), 14 P1.1 (io), 15 P1.0/XTAL2 (io), 16 P0.7/XTAL1 (io), 17 P0.6/C2D (io), 18 P0.5/RX (io), 19 P0.4/TX (io), 20 P0.3 (io)

## C8051F540-AM
designator U?
Mixed Signal 16KB Flash ISP MCU, 1280B RAM, 25 I/Os, 12-Bit 25 Channel ADC, LIN 2.1, 32-Pin QFN, Automotive Grade; Manufacturer: Silicon Labs; PartNumber: C8051F540-AM; DatasheetVersion: rev1.1, Apr-2011; PackageVersion: 2011; PackageReference: QFN-32; PackageDescription: 32-Pin Quad Flat No-Lead, 5 x 5 x 0.9 mm Body, 0.5 mm Pitch; Code_JEDEC: MO-220-VHHD; ComponentLink1Description: Manufacturer URL; ComponentLink1URL: http://www.silabs.com; ComponentLink2Description: Datasheet; ComponentLink2URL: http://www.silabs.com/Support%20Documents/TechnicalDocs/C8051F54x.pdf
footprint QFN-32_V (QFN, 32-Leads, Body 5x5mm, Pitch 0.5mm, Thermal Pad 3.3x3.3mm, Silicon Labs Recommended)
pins: 1 P0.1/CNVSTR (io), 2 VIO (power), 3 VREGIN (power), 4 VDD (power), 5 VDDA (power), 6 GND (power), 7 GNDA (power), 8 P0.0/VREF (io), 9 P3.0/C2D (io), 10 ~{RST}/C2CK (io), 11 P2.7 (io), 12 P2.6 (io), 13 P2.5 (io), 14 P2.4 (io), 15 P2.3 (io), 16 P2.2 (io), 17 P2.1 (io), 18 P2.0 (io), 19 P1.7 (io), 20 P1.6 (io), 21 P1.5 (io), 22 P1.4 (io), 23 P1.3 (io), 24 P1.2 (io), 25 P1.1 (io), 26 P1.0 (io), 27 P0.7/CANRX (io), 28 P0.6/CANTX (io), 29 P0.5/UART0RX (io), 30 P0.4/UART0TX (io), 31 P0.3/XTAL2 (io), 32 P0.2/XTAL1 (io), 33 EP (power)

## C8051F540-AQ
designator U?
Mixed Signal 16KB Flash ISP MCU, 1280B RAM, 25 I/Os, 12-Bit 25 Channel ADC, LIN 2.1, 32-Pin QFP, Automotive Grade; Manufacturer: Silicon Labs; PartNumber: C8051F540-AQ; DatasheetVersion: rev1.1, Apr-2011; PackageVersion: 2007; PackageReference: LQFP-32; PackageDescription: 32-Pin Thin Quad Flat Pack, 7 x 7 x 1.4 mm Body, 0.8 mm Pitch; ComponentLink1Description: Manufacturer URL; ComponentLink1URL: http://www.silabs.com; ComponentLink2Description: Datasheet; ComponentLink2URL: http://www.silabs.com/Support%20Documents/TechnicalDocs/C8051F54x.pdf
footprint LQFP-32_N (Thin QFP, 32-Leads, Body 7x7mm, Pitch 0.8mm, IPC Medium Density)
footprint LQFP-32_L (Thin QFP, 32-Leads, Body 7x7mm, Pitch 0.8mm, IPC High Density)
footprint LQFP-32_M (Thin QFP, 32-Leads, Body 7x7mm, Pitch 0.8mm, IPC Low Density)
pins: 1 P0.1/CNVSTR (io), 2 VIO (power), 3 VREGIN (power), 4 VDD (power), 5 VDDA (power), 6 GND (power), 7 GNDA (power), 8 P0.0/VREF (io), 9 P3.0/C2D (io), 10 ~{RST}/C2CK (io), 11 P2.7 (io), 12 P2.6 (io), 13 P2.5 (io), 14 P2.4 (io), 15 P2.3 (io), 16 P2.2 (io), 17 P2.1 (io), 18 P2.0 (io), 19 P1.7 (io), 20 P1.6 (io), 21 P1.5 (io), 22 P1.4 (io), 23 P1.3 (io), 24 P1.2 (io), 25 P1.1 (io), 26 P1.0 (io), 27 P0.7/CANRX (io), 28 P0.6/CANTX (io), 29 P0.5/UART0RX (io), 30 P0.4/UART0TX (io), 31 P0.3/XTAL2 (io), 32 P0.2/XTAL1 (io)

## C8051F540-IM
designator U?
Mixed Signal 16KB Flash ISP MCU, 1280B RAM, 25 I/Os, 12-Bit 25 Channel ADC, I2C, LIN 2.1, 32-Pin QFN, Industrial Grade; Manufacturer: Silicon Labs; PartNumber: C8051F540-IM; DatasheetVersion: rev1.1, Apr-2011; PackageVersion: 2011; PackageReference: QFN-32; PackageDescription: 32-Pin Quad Flat No-Lead, 5 x 5 x 0.9 mm Body, 0.5 mm Pitch; Supplier 1: Digi-Key; Supplier Part Number 1: 336-1670-5-ND; Supplier 2: Mouser; Supplier Part Number 2: 634-C8051F540-IM; Code_JEDEC: MO-220-VHHD; ComponentLink1Description: Manufacturer URL; ComponentLink1URL: http://www.silabs.com; ComponentLink2Description: Datasheet; ComponentLink2URL: http://www.silabs.com/Support%20Documents/TechnicalDocs/C8051F54x.pdf
footprint QFN-32_V (QFN, 32-Leads, Body 5x5mm, Pitch 0.5mm, Thermal Pad 3.3x3.3mm, Silicon Labs Recommended)
pins: 1 P0.1/CNVSTR (io), 2 VIO (power), 3 VREGIN (power), 4 VDD (power), 5 VDDA (power), 6 GND (power), 7 GNDA (power), 8 P0.0/VREF (io), 9 P3.0/C2D (io), 10 ~{RST}/C2CK (io), 11 P2.7 (io), 12 P2.6 (io), 13 P2.5 (io), 14 P2.4 (io), 15 P2.3 (io), 16 P2.2 (io), 17 P2.1 (io), 18 P2.0 (io), 19 P1.7 (io), 20 P1.6 (io), 21 P1.5 (io), 22 P1.4 (io), 23 P1.3 (io), 24 P1.2 (io), 25 P1.1 (io), 26 P1.0 (io), 27 P0.7/CANRX (io), 28 P0.6/CANTX (io), 29 P0.5/UART0RX (io), 30 P0.4/UART0TX (io), 31 P0.3/XTAL2 (io), 32 P0.2/XTAL1 (io), 33 EP (power)

## C8051F540-IQ
designator U?
Mixed Signal 16KB Flash ISP MCU, 1280B RAM, 25 I/Os, 12-Bit 25 Channel ADC, I2C, LIN 2.1, 32-Pin QFP, Industrial Grade; Manufacturer: Silicon Labs; PartNumber: C8051F540-IQ; DatasheetVersion: rev1.1, Apr-2011; PackageVersion: 2007; PackageReference: LQFP-32; PackageDescription: 32-Pin Thin Quad Flat Pack, 7 x 7 x 1.4 mm Body, 0.8 mm Pitch; Supplier 1: Digi-Key; Supplier Part Number 1: 336-1671-ND; Supplier 2: Mouser; Supplier Part Number 2: 634-C8051F540-IQ; ComponentLink1Description: Manufacturer URL; ComponentLink1URL: http://www.silabs.com; ComponentLink2Description: Datasheet; ComponentLink2URL: http://www.silabs.com/Support%20Documents/TechnicalDocs/C8051F54x.pdf
footprint LQFP-32_N (Thin QFP, 32-Leads, Body 7x7mm, Pitch 0.8mm, IPC Medium Density)
footprint LQFP-32_L (Thin QFP, 32-Leads, Body 7x7mm, Pitch 0.8mm, IPC High Density)
footprint LQFP-32_M (Thin QFP, 32-Leads, Body 7x7mm, Pitch 0.8mm, IPC Low Density)
pins: 1 P0.1/CNVSTR (io), 2 VIO (power), 3 VREGIN (power), 4 VDD (power), 5 VDDA (power), 6 GND (power), 7 GNDA (power), 8 P0.0/VREF (io), 9 P3.0/C2D (io), 10 ~{RST}/C2CK (io), 11 P2.7 (io), 12 P2.6 (io), 13 P2.5 (io), 14 P2.4 (io), 15 P2.3 (io), 16 P2.2 (io), 17 P2.1 (io), 18 P2.0 (io), 19 P1.7 (io), 20 P1.6 (io), 21 P1.5 (io), 22 P1.4 (io), 23 P1.3 (io), 24 P1.2 (io), 25 P1.1 (io), 26 P1.0 (io), 27 P0.7/CANRX (io), 28 P0.6/CANTX (io), 29 P0.5/UART0RX (io), 30 P0.4/UART0TX (io), 31 P0.3/XTAL2 (io), 32 P0.2/XTAL1 (io)

## C8051F541-AM
designator U?
Mixed Signal 16KB Flash ISP MCU, 1280B RAM, 25 I/Os, 12-Bit 25 Channel ADC, SPI, 32-Pin QFN, Automotive Grade; Manufacturer: Silicon Labs; PartNumber: C8051F541-AM; DatasheetVersion: rev1.1, Apr-2011; PackageVersion: 2011; PackageReference: QFN-32; PackageDescription: 32-Pin Quad Flat No-Lead, 5 x 5 x 0.9 mm Body, 0.5 mm Pitch; Code_JEDEC: MO-220-VHHD; ComponentLink1Description: Manufacturer URL; ComponentLink1URL: http://www.silabs.com; ComponentLink2Description: Datasheet; ComponentLink2URL: http://www.silabs.com/Support%20Documents/TechnicalDocs/C8051F54x.pdf
footprint QFN-32_V (QFN, 32-Leads, Body 5x5mm, Pitch 0.5mm, Thermal Pad 3.3x3.3mm, Silicon Labs Recommended)
pins: 1 P0.1/CNVSTR (io), 2 VIO (power), 3 VREGIN (power), 4 VDD (power), 5 VDDA (power), 6 GND (power), 7 GNDA (power), 8 P0.0/VREF (io), 9 P3.0/C2D (io), 10 ~{RST}/C2CK (io), 11 P2.7 (io), 12 P2.6 (io), 13 P2.5 (io), 14 P2.4 (io), 15 P2.3 (io), 16 P2.2 (io), 17 P2.1 (io), 18 P2.0 (io), 19 P1.7 (io), 20 P1.6 (io), 21 P1.5 (io), 22 P1.4 (io), 23 P1.3 (io), 24 P1.2 (io), 25 P1.1 (io), 26 P1.0 (io), 27 P0.7/CANRX (io), 28 P0.6/CANTX (io), 29 P0.5/UART0RX (io), 30 P0.4/UART0TX (io), 31 P0.3/XTAL2 (io), 32 P0.2/XTAL1 (io), 33 EP (power)

## C8051F541-AQ
designator U?
Mixed Signal 16KB Flash ISP MCU, 1280B RAM, 25 I/Os, 12-Bit 25 Channel ADC, SPI, 32-Pin QFP, Automotive Grade; Manufacturer: Silicon Labs; PartNumber: C8051F541-AQ; DatasheetVersion: rev1.1, Apr-2011; PackageVersion: 2007; PackageReference: LQFP-32; PackageDescription: 32-Pin Thin Quad Flat Pack, 7 x 7 x 1.4 mm Body, 0.8 mm Pitch; ComponentLink1Description: Manufacturer URL; ComponentLink1URL: http://www.silabs.com; ComponentLink2Description: Datasheet; ComponentLink2URL: http://www.silabs.com/Support%20Documents/TechnicalDocs/C8051F54x.pdf
footprint LQFP-32_N (Thin QFP, 32-Leads, Body 7x7mm, Pitch 0.8mm, IPC Medium Density)
footprint LQFP-32_L (Thin QFP, 32-Leads, Body 7x7mm, Pitch 0.8mm, IPC High Density)
footprint LQFP-32_M (Thin QFP, 32-Leads, Body 7x7mm, Pitch 0.8mm, IPC Low Density)
pins: 1 P0.1/CNVSTR (io), 2 VIO (power), 3 VREGIN (power), 4 VDD (power), 5 VDDA (power), 6 GND (power), 7 GNDA (power), 8 P0.0/VREF (io), 9 P3.0/C2D (io), 10 ~{RST}/C2CK (io), 11 P2.7 (io), 12 P2.6 (io), 13 P2.5 (io), 14 P2.4 (io), 15 P2.3 (io), 16 P2.2 (io), 17 P2.1 (io), 18 P2.0 (io), 19 P1.7 (io), 20 P1.6 (io), 21 P1.5 (io), 22 P1.4 (io), 23 P1.3 (io), 24 P1.2 (io), 25 P1.1 (io), 26 P1.0 (io), 27 P0.7/CANRX (io), 28 P0.6/CANTX (io), 29 P0.5/UART0RX (io), 30 P0.4/UART0TX (io), 31 P0.3/XTAL2 (io), 32 P0.2/XTAL1 (io)

## C8051F541-IM
designator U?
Mixed Signal 16KB Flash ISP MCU, 1280B RAM, 25 I/Os, 12-Bit 25 Channel ADC, I2C, 32-Pin QFN, Industrial Grade; Manufacturer: Silicon Labs; PartNumber: C8051F541-IM; DatasheetVersion: rev1.1, Apr-2011; PackageVersion: 2011; PackageReference: QFN-32; PackageDescription: 32-Pin Quad Flat No-Lead, 5 x 5 x 0.9 mm Body, 0.5 mm Pitch; Supplier 1: Digi-Key; Supplier Part Number 1: 336-1673-5-ND; Supplier 2: Mouser; Supplier Part Number 2: 634-C8051F541-IM; Code_JEDEC: MO-220-VHHD; ComponentLink1Description: Manufacturer URL; ComponentLink1URL: http://www.silabs.com; ComponentLink2Description: Datasheet; ComponentLink2URL: http://www.silabs.com/Support%20Documents/TechnicalDocs/C8051F54x.pdf
footprint QFN-32_V (QFN, 32-Leads, Body 5x5mm, Pitch 0.5mm, Thermal Pad 3.3x3.3mm, Silicon Labs Recommended)
pins: 1 P0.1/CNVSTR (io), 2 VIO (power), 3 VREGIN (power), 4 VDD (power), 5 VDDA (power), 6 GND (power), 7 GNDA (power), 8 P0.0/VREF (io), 9 P3.0/C2D (io), 10 ~{RST}/C2CK (io), 11 P2.7 (io), 12 P2.6 (io), 13 P2.5 (io), 14 P2.4 (io), 15 P2.3 (io), 16 P2.2 (io), 17 P2.1 (io), 18 P2.0 (io), 19 P1.7 (io), 20 P1.6 (io), 21 P1.5 (io), 22 P1.4 (io), 23 P1.3 (io), 24 P1.2 (io), 25 P1.1 (io), 26 P1.0 (io), 27 P0.7/CANRX (io), 28 P0.6/CANTX (io), 29 P0.5/UART0RX (io), 30 P0.4/UART0TX (io), 31 P0.3/XTAL2 (io), 32 P0.2/XTAL1 (io), 33 EP (power)

## C8051F541-IQ
designator U?
Mixed Signal 16KB Flash ISP MCU, 1280B RAM, 25 I/Os, 12-Bit 25 Channel ADC, I2C, 32-Pin QFP, Industrial Grade; Manufacturer: Silicon Labs; PartNumber: C8051F541-IQ; DatasheetVersion: rev1.1, Apr-2011; PackageVersion: 2007; PackageReference: LQFP-32; PackageDescription: 32-Pin Thin Quad Flat Pack, 7 x 7 x 1.4 mm Body, 0.8 mm Pitch; Supplier 1: Digi-Key; Supplier Part Number 1: 336-1674-ND; Supplier 2: Mouser; Supplier Part Number 2: 634-C8051F541-IQ; ComponentLink1Description: Manufacturer URL; ComponentLink1URL: http://www.silabs.com; ComponentLink2Description: Datasheet; ComponentLink2URL: http://www.silabs.com/Support%20Documents/TechnicalDocs/C8051F54x.pdf
footprint LQFP-32_N (Thin QFP, 32-Leads, Body 7x7mm, Pitch 0.8mm, IPC Medium Density)
footprint LQFP-32_L (Thin QFP, 32-Leads, Body 7x7mm, Pitch 0.8mm, IPC High Density)
footprint LQFP-32_M (Thin QFP, 32-Leads, Body 7x7mm, Pitch 0.8mm, IPC Low Density)
pins: 1 P0.1/CNVSTR (io), 2 VIO (power), 3 VREGIN (power), 4 VDD (power), 5 VDDA (power), 6 GND (power), 7 GNDA (power), 8 P0.0/VREF (io), 9 P3.0/C2D (io), 10 ~{RST}/C2CK (io), 11 P2.7 (io), 12 P2.6 (io), 13 P2.5 (io), 14 P2.4 (io), 15 P2.3 (io), 16 P2.2 (io), 17 P2.1 (io), 18 P2.0 (io), 19 P1.7 (io), 20 P1.6 (io), 21 P1.5 (io), 22 P1.4 (io), 23 P1.3 (io), 24 P1.2 (io), 25 P1.1 (io), 26 P1.0 (io), 27 P0.7/CANRX (io), 28 P0.6/CANTX (io), 29 P0.5/UART0RX (io), 30 P0.4/UART0TX (io), 31 P0.3/XTAL2 (io), 32 P0.2/XTAL1 (io)

## C8051F542-AM
designator U?
Mixed Signal 16KB Flash ISP MCU, 1280B RAM, 18 I/Os, 12-Bit 18 Channel ADC, LIN 2.1, 24-Pin QFN, Automotive Grade; Manufacturer: Silicon Labs; PartNumber: C8051F542-AM; DatasheetVersion: rev1.1, Apr-2011; PackageVersion: 2011; PackageReference: QFN-24; PackageDescription: 24-Pin Quad Flat No-Lead, 4 x 4 x 0.75 mm Body, 0.5 mm Pitch; Code_JEDEC: MO-220-WGGD; ComponentLink1Description: Manufacturer URL; ComponentLink1URL: http://www.silabs.com; ComponentLink2Description: Datasheet; ComponentLink2URL: http://www.silabs.com/Support%20Documents/TechnicalDocs/C8051F54x.pdf
footprint QFN-24_V (QFN, 24-Leads, Body 4x4mm, Pitch 0.5mm, Thermal Pad 2.75x2.75mm, Silicon Labs Recommended)
pins: 1 VIO (power), 2 VREGIN (power), 3 VDD (power), 4 GND (power), 5 GNDA (power), 6 P0.0/VREF (io), 7 P2.1/C2D (io), 8 ~{RST}/C2CK (io), 9 P2.0 (io), 10 P1.7 (io), 11 P1.6 (io), 12 P1.5 (io), 13 P1.4 (io), 14 P1.3 (io), 15 P1.2 (io), 16 P1.1 (io), 17 P1.0 (io), 18 P0.7/CAN0RX (io), 19 P0.6/CAN0TX (io), 20 P0.5/UART0RX (io), 21 P0.4/UART0TX (io), 22 P0.3/XTAL2 (io), 23 P0.2/XTAL1 (io), 24 P0.1/CNVSTR (io), 25 EP (power)

## C8051F542-IM
designator U?
Mixed Signal 16KB Flash ISP MCU, 1280B RAM, 18 I/Os, 12-Bit 18 Channel ADC, I2C, LIN 2.1, 24-Pin QFN, Industrial Grade; Manufacturer: Silicon Labs; PartNumber: C8051F542-IM; DatasheetVersion: rev1.1, Apr-2011; PackageVersion: 2011; PackageReference: QFN-24; PackageDescription: 24-Pin Quad Flat No-Lead, 4 x 4 x 0.75 mm Body, 0.5 mm Pitch; Supplier 1: Digi-Key; Supplier Part Number 1: 336-1675-5-ND; Supplier 2: Mouser; Supplier Part Number 2: 634-C8051F542-IM; Code_JEDEC: MO-220-WGGD; ComponentLink1Description: Manufacturer URL; ComponentLink1URL: http://www.silabs.com; ComponentLink2Description: Datasheet; ComponentLink2URL: http://www.silabs.com/Support%20Documents/TechnicalDocs/C8051F54x.pdf
footprint QFN-24_V (QFN, 24-Leads, Body 4x4mm, Pitch 0.5mm, Thermal Pad 2.75x2.75mm, Silicon Labs Recommended)
pins: 1 VIO (power), 2 VREGIN (power), 3 VDD (power), 4 GND (power), 5 GNDA (power), 6 P0.0/VREF (io), 7 P2.1/C2D (io), 8 ~{RST}/C2CK (io), 9 P2.0 (io), 10 P1.7 (io), 11 P1.6 (io), 12 P1.5 (io), 13 P1.4 (io), 14 P1.3 (io), 15 P1.2 (io), 16 P1.1 (io), 17 P1.0 (io), 18 P0.7/CAN0RX (io), 19 P0.6/CAN0TX (io), 20 P0.5/UART0RX (io), 21 P0.4/UART0TX (io), 22 P0.3/XTAL2 (io), 23 P0.2/XTAL1 (io), 24 P0.1/CNVSTR (io), 25 EP (power)

## C8051F543-AM
designator U?
Mixed Signal 16KB Flash ISP MCU, 1280B RAM, 18 I/Os, 12-Bit 18 Channel ADC, SPI, 24-Pin QFN, Automotive Grade; Manufacturer: Silicon Labs; PartNumber: C8051F543-AM; DatasheetVersion: rev1.1, Apr-2011; PackageVersion: 2011; PackageReference: QFN-24; PackageDescription: 24-Pin Quad Flat No-Lead, 4 x 4 x 0.75 mm Body, 0.5 mm Pitch; Code_JEDEC: MO-220-WGGD; ComponentLink1Description: Manufacturer URL; ComponentLink1URL: http://www.silabs.com; ComponentLink2Description: Datasheet; ComponentLink2URL: http://www.silabs.com/Support%20Documents/TechnicalDocs/C8051F54x.pdf
footprint QFN-24_V (QFN, 24-Leads, Body 4x4mm, Pitch 0.5mm, Thermal Pad 2.75x2.75mm, Silicon Labs Recommended)
pins: 1 VIO (power), 2 VREGIN (power), 3 VDD (power), 4 GND (power), 5 GNDA (power), 6 P0.0/VREF (io), 7 P2.1/C2D (io), 8 ~{RST}/C2CK (io), 9 P2.0 (io), 10 P1.7 (io), 11 P1.6 (io), 12 P1.5 (io), 13 P1.4 (io), 14 P1.3 (io), 15 P1.2 (io), 16 P1.1 (io), 17 P1.0 (io), 18 P0.7/CAN0RX (io), 19 P0.6/CAN0TX (io), 20 P0.5/UART0RX (io), 21 P0.4/UART0TX (io), 22 P0.3/XTAL2 (io), 23 P0.2/XTAL1 (io), 24 P0.1/CNVSTR (io), 25 EP (power)

## C8051F543-IM
designator U?
Mixed Signal 16KB Flash ISP MCU, 1280B RAM, 18 I/Os, 12-Bit 18 Channel ADC, I2C, 24-Pin QFN, Industrial Grade; Manufacturer: Silicon Labs; PartNumber: C8051F543-IM; DatasheetVersion: rev1.1, Apr-2011; PackageVersion: 2011; PackageReference: QFN-24; PackageDescription: 24-Pin Quad Flat No-Lead, 4 x 4 x 0.75 mm Body, 0.5 mm Pitch; Supplier 1: Digi-Key; Supplier Part Number 1: 336-1676-5-ND; Supplier 2: Mouser; Supplier Part Number 2: 634-C8051F543-IM; Code_JEDEC: MO-220-WGGD; ComponentLink1Description: Manufacturer URL; ComponentLink1URL: http://www.silabs.com; ComponentLink2Description: Datasheet; ComponentLink2URL: http://www.silabs.com/Support%20Documents/TechnicalDocs/C8051F54x.pdf
footprint QFN-24_V (QFN, 24-Leads, Body 4x4mm, Pitch 0.5mm, Thermal Pad 2.75x2.75mm, Silicon Labs Recommended)
pins: 1 VIO (power), 2 VREGIN (power), 3 VDD (power), 4 GND (power), 5 GNDA (power), 6 P0.0/VREF (io), 7 P2.1/C2D (io), 8 ~{RST}/C2CK (io), 9 P2.0 (io), 10 P1.7 (io), 11 P1.6 (io), 12 P1.5 (io), 13 P1.4 (io), 14 P1.3 (io), 15 P1.2 (io), 16 P1.1 (io), 17 P1.0 (io), 18 P0.7/CAN0RX (io), 19 P0.6/CAN0TX (io), 20 P0.5/UART0RX (io), 21 P0.4/UART0TX (io), 22 P0.3/XTAL2 (io), 23 P0.2/XTAL1 (io), 24 P0.1/CNVSTR (io), 25 EP (power)

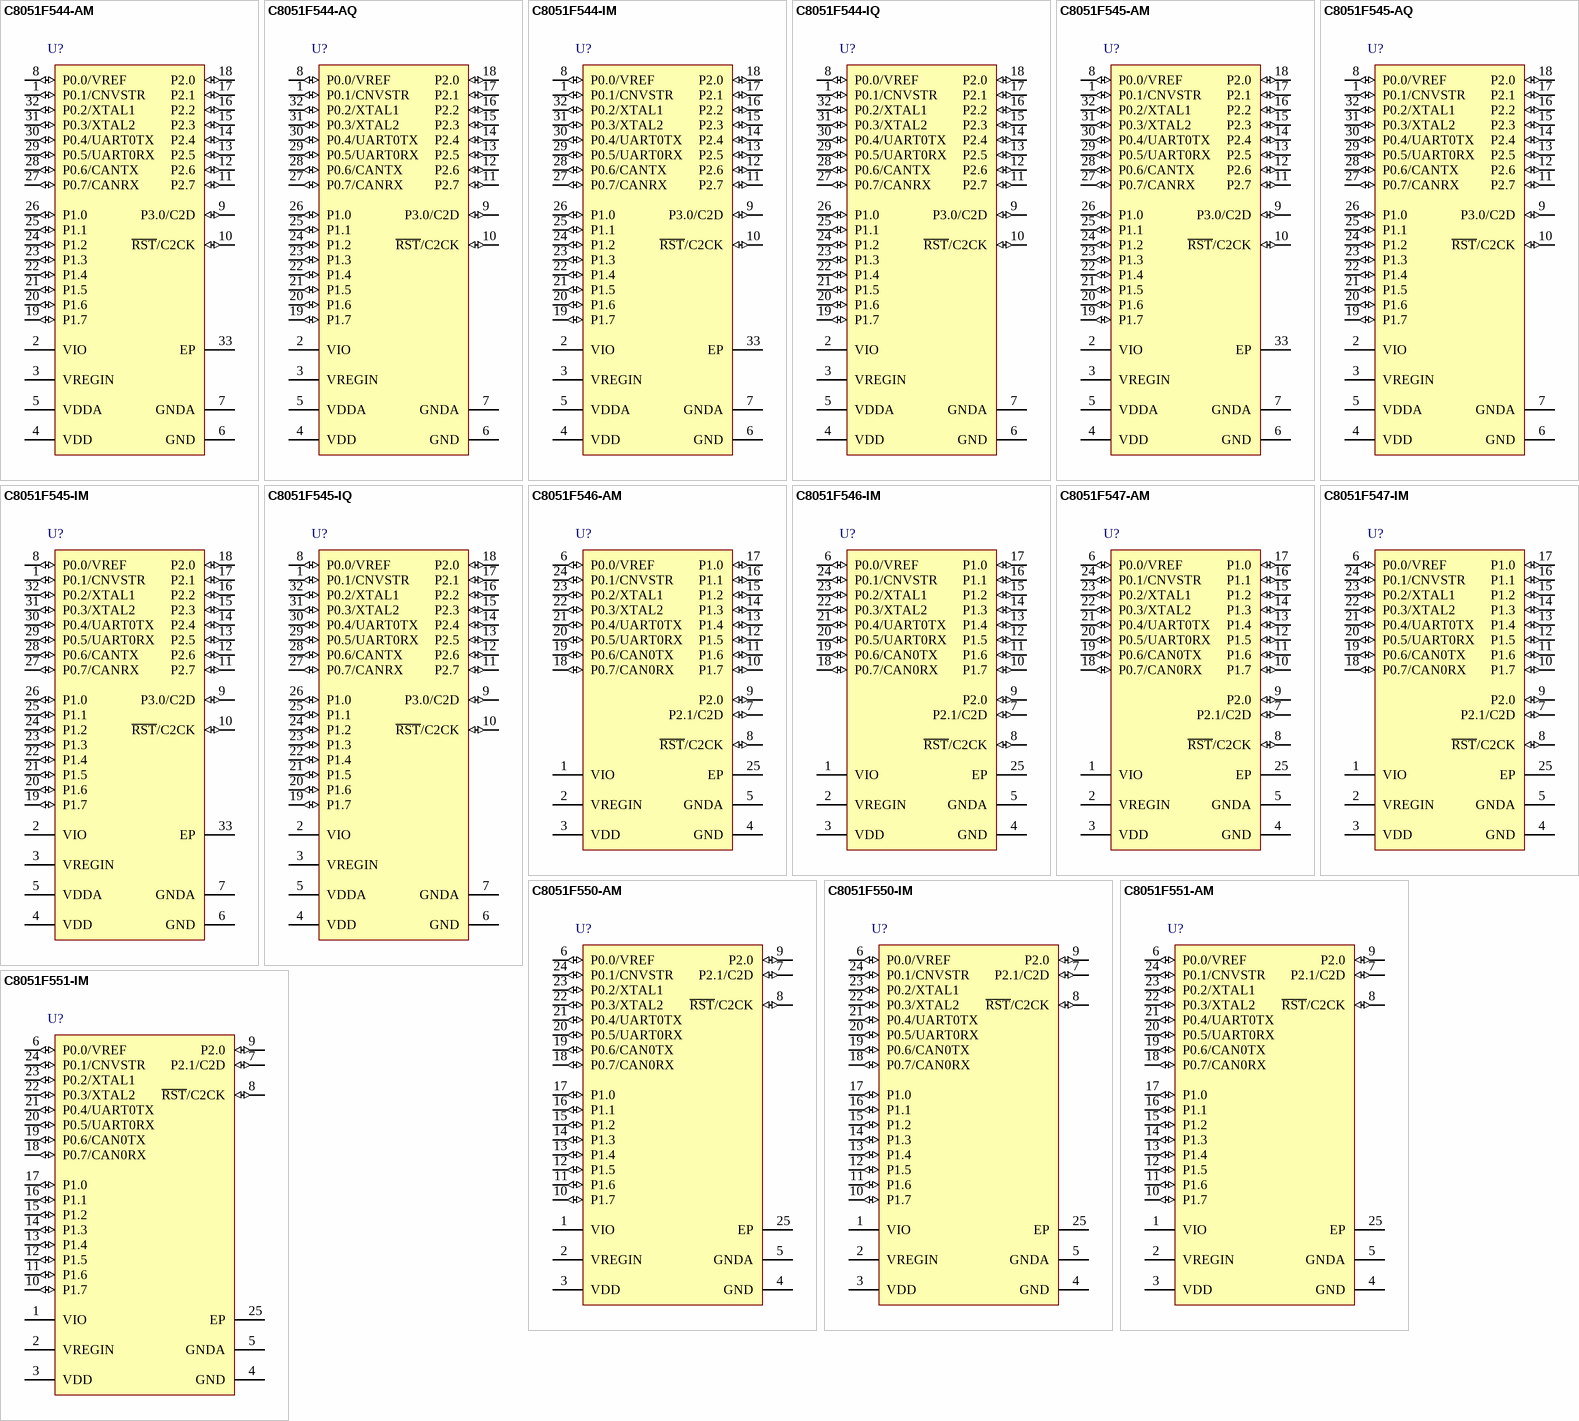
[diagram p6: symbols C8051F544-AM to C8051F551-IM]

## C8051F544-AM
designator U?
Mixed Signal 8KB Flash ISP MCU, 1280B RAM, 25 I/Os, 12-Bit 25 Channel ADC, LIN 2.1, 32-Pin QFN, Automotive Grade; Manufacturer: Silicon Labs; PartNumber: C8051F544-AM; DatasheetVersion: rev1.1, Apr-2011; PackageVersion: 2011; PackageReference: QFN-32; PackageDescription: 32-Pin Quad Flat No-Lead, 5 x 5 x 0.9 mm Body, 0.5 mm Pitch; Code_JEDEC: MO-220-VHHD; ComponentLink1Description: Manufacturer URL; ComponentLink1URL: http://www.silabs.com; ComponentLink2Description: Datasheet; ComponentLink2URL: http://www.silabs.com/Support%20Documents/TechnicalDocs/C8051F54x.pdf
footprint QFN-32_V (QFN, 32-Leads, Body 5x5mm, Pitch 0.5mm, Thermal Pad 3.3x3.3mm, Silicon Labs Recommended)
pins: 1 P0.1/CNVSTR (io), 2 VIO (power), 3 VREGIN (power), 4 VDD (power), 5 VDDA (power), 6 GND (power), 7 GNDA (power), 8 P0.0/VREF (io), 9 P3.0/C2D (io), 10 ~{RST}/C2CK (io), 11 P2.7 (io), 12 P2.6 (io), 13 P2.5 (io), 14 P2.4 (io), 15 P2.3 (io), 16 P2.2 (io), 17 P2.1 (io), 18 P2.0 (io), 19 P1.7 (io), 20 P1.6 (io), 21 P1.5 (io), 22 P1.4 (io), 23 P1.3 (io), 24 P1.2 (io), 25 P1.1 (io), 26 P1.0 (io), 27 P0.7/CANRX (io), 28 P0.6/CANTX (io), 29 P0.5/UART0RX (io), 30 P0.4/UART0TX (io), 31 P0.3/XTAL2 (io), 32 P0.2/XTAL1 (io), 33 EP (power)

## C8051F544-AQ
designator U?
Mixed Signal 8KB Flash ISP MCU, 1280B RAM, 25 I/Os, 12-Bit 25 Channel ADC, LIN 2.1, 32-Pin QFP, Automotive Grade; Manufacturer: Silicon Labs; PartNumber: C8051F544-AQ; DatasheetVersion: rev1.1, Apr-2011; PackageVersion: 2007; PackageReference: LQFP-32; PackageDescription: 32-Pin Thin Quad Flat Pack, 7 x 7 x 1.4 mm Body, 0.8 mm Pitch; ComponentLink1Description: Manufacturer URL; ComponentLink1URL: http://www.silabs.com; ComponentLink2Description: Datasheet; ComponentLink2URL: http://www.silabs.com/Support%20Documents/TechnicalDocs/C8051F54x.pdf
footprint LQFP-32_N (Thin QFP, 32-Leads, Body 7x7mm, Pitch 0.8mm, IPC Medium Density)
footprint LQFP-32_L (Thin QFP, 32-Leads, Body 7x7mm, Pitch 0.8mm, IPC High Density)
footprint LQFP-32_M (Thin QFP, 32-Leads, Body 7x7mm, Pitch 0.8mm, IPC Low Density)
pins: 1 P0.1/CNVSTR (io), 2 VIO (power), 3 VREGIN (power), 4 VDD (power), 5 VDDA (power), 6 GND (power), 7 GNDA (power), 8 P0.0/VREF (io), 9 P3.0/C2D (io), 10 ~{RST}/C2CK (io), 11 P2.7 (io), 12 P2.6 (io), 13 P2.5 (io), 14 P2.4 (io), 15 P2.3 (io), 16 P2.2 (io), 17 P2.1 (io), 18 P2.0 (io), 19 P1.7 (io), 20 P1.6 (io), 21 P1.5 (io), 22 P1.4 (io), 23 P1.3 (io), 24 P1.2 (io), 25 P1.1 (io), 26 P1.0 (io), 27 P0.7/CANRX (io), 28 P0.6/CANTX (io), 29 P0.5/UART0RX (io), 30 P0.4/UART0TX (io), 31 P0.3/XTAL2 (io), 32 P0.2/XTAL1 (io)

## C8051F544-IM
designator U?
Mixed Signal 8KB Flash ISP MCU, 1280B RAM, 25 I/Os, 12-Bit 18 Channel ADC, I2C, 32-Pin QFN, Industrial Grade; Manufacturer: Silicon Labs; PartNumber: C8051F544-IM; DatasheetVersion: rev1.1, Apr-2011; PackageVersion: 2011; PackageReference: QFN-32; PackageDescription: 32-Pin Quad Flat No-Lead, 5 x 5 x 0.9 mm Body, 0.5 mm Pitch; Supplier 1: Digi-Key; Supplier Part Number 1: 336-1677-5-ND; Supplier 2: Mouser; Supplier Part Number 2: 634-C8051F544-IM; Code_JEDEC: MO-220-VHHD; ComponentLink1Description: Manufacturer URL; ComponentLink1URL: http://www.silabs.com; ComponentLink2Description: Datasheet; ComponentLink2URL: http://www.silabs.com/Support%20Documents/TechnicalDocs/C8051F54x.pdf
footprint QFN-32_V (QFN, 32-Leads, Body 5x5mm, Pitch 0.5mm, Thermal Pad 3.3x3.3mm, Silicon Labs Recommended)
pins: 1 P0.1/CNVSTR (io), 2 VIO (power), 3 VREGIN (power), 4 VDD (power), 5 VDDA (power), 6 GND (power), 7 GNDA (power), 8 P0.0/VREF (io), 9 P3.0/C2D (io), 10 ~{RST}/C2CK (io), 11 P2.7 (io), 12 P2.6 (io), 13 P2.5 (io), 14 P2.4 (io), 15 P2.3 (io), 16 P2.2 (io), 17 P2.1 (io), 18 P2.0 (io), 19 P1.7 (io), 20 P1.6 (io), 21 P1.5 (io), 22 P1.4 (io), 23 P1.3 (io), 24 P1.2 (io), 25 P1.1 (io), 26 P1.0 (io), 27 P0.7/CANRX (io), 28 P0.6/CANTX (io), 29 P0.5/UART0RX (io), 30 P0.4/UART0TX (io), 31 P0.3/XTAL2 (io), 32 P0.2/XTAL1 (io), 33 EP (power)

## C8051F544-IQ
designator U?
Mixed Signal 8KB Flash ISP MCU, 1280B RAM, 25 I/Os, 12-Bit 25 Channel ADC, I2C, LIN 2.1, 32-Pin QFP, Industrial Grade; Manufacturer: Silicon Labs; PartNumber: C8051F544-IQ; DatasheetVersion: rev1.1, Apr-2011; PackageVersion: 2007; PackageReference: LQFP-32; PackageDescription: 32-Pin Thin Quad Flat Pack, 7 x 7 x 1.4 mm Body, 0.8 mm Pitch; Supplier 1: Digi-Key; Supplier Part Number 1: 336-1678-ND; Supplier 2: Mouser; Supplier Part Number 2: 634-C8051F544-IQ; ComponentLink1Description: Manufacturer URL; ComponentLink1URL: http://www.silabs.com; ComponentLink2Description: Datasheet; ComponentLink2URL: http://www.silabs.com/Support%20Documents/TechnicalDocs/C8051F54x.pdf
footprint LQFP-32_N (Thin QFP, 32-Leads, Body 7x7mm, Pitch 0.8mm, IPC Medium Density)
footprint LQFP-32_L (Thin QFP, 32-Leads, Body 7x7mm, Pitch 0.8mm, IPC High Density)
footprint LQFP-32_M (Thin QFP, 32-Leads, Body 7x7mm, Pitch 0.8mm, IPC Low Density)
pins: 1 P0.1/CNVSTR (io), 2 VIO (power), 3 VREGIN (power), 4 VDD (power), 5 VDDA (power), 6 GND (power), 7 GNDA (power), 8 P0.0/VREF (io), 9 P3.0/C2D (io), 10 ~{RST}/C2CK (io), 11 P2.7 (io), 12 P2.6 (io), 13 P2.5 (io), 14 P2.4 (io), 15 P2.3 (io), 16 P2.2 (io), 17 P2.1 (io), 18 P2.0 (io), 19 P1.7 (io), 20 P1.6 (io), 21 P1.5 (io), 22 P1.4 (io), 23 P1.3 (io), 24 P1.2 (io), 25 P1.1 (io), 26 P1.0 (io), 27 P0.7/CANRX (io), 28 P0.6/CANTX (io), 29 P0.5/UART0RX (io), 30 P0.4/UART0TX (io), 31 P0.3/XTAL2 (io), 32 P0.2/XTAL1 (io)

## C8051F545-AM
designator U?
Mixed Signal 8KB Flash ISP MCU, 1280B RAM, 25 I/Os, 12-Bit 25 Channel ADC, SPI, 32-Pin QFN, Automotive Grade; Manufacturer: Silicon Labs; PartNumber: C8051F545-AM; DatasheetVersion: rev1.1, Apr-2011; PackageVersion: 2011; PackageReference: QFN-32; PackageDescription: 32-Pin Quad Flat No-Lead, 5 x 5 x 0.9 mm Body, 0.5 mm Pitch; Code_JEDEC: MO-220-VHHD; ComponentLink1Description: Manufacturer URL; ComponentLink1URL: http://www.silabs.com; ComponentLink2Description: Datasheet; ComponentLink2URL: http://www.silabs.com/Support%20Documents/TechnicalDocs/C8051F54x.pdf
footprint QFN-32_V (QFN, 32-Leads, Body 5x5mm, Pitch 0.5mm, Thermal Pad 3.3x3.3mm, Silicon Labs Recommended)
pins: 1 P0.1/CNVSTR (io), 2 VIO (power), 3 VREGIN (power), 4 VDD (power), 5 VDDA (power), 6 GND (power), 7 GNDA (power), 8 P0.0/VREF (io), 9 P3.0/C2D (io), 10 ~{RST}/C2CK (io), 11 P2.7 (io), 12 P2.6 (io), 13 P2.5 (io), 14 P2.4 (io), 15 P2.3 (io), 16 P2.2 (io), 17 P2.1 (io), 18 P2.0 (io), 19 P1.7 (io), 20 P1.6 (io), 21 P1.5 (io), 22 P1.4 (io), 23 P1.3 (io), 24 P1.2 (io), 25 P1.1 (io), 26 P1.0 (io), 27 P0.7/CANRX (io), 28 P0.6/CANTX (io), 29 P0.5/UART0RX (io), 30 P0.4/UART0TX (io), 31 P0.3/XTAL2 (io), 32 P0.2/XTAL1 (io), 33 EP (power)